# Altium integrated library Cypress PLD Delta39K.IntLib: 82 symbols (part 16 of 21)
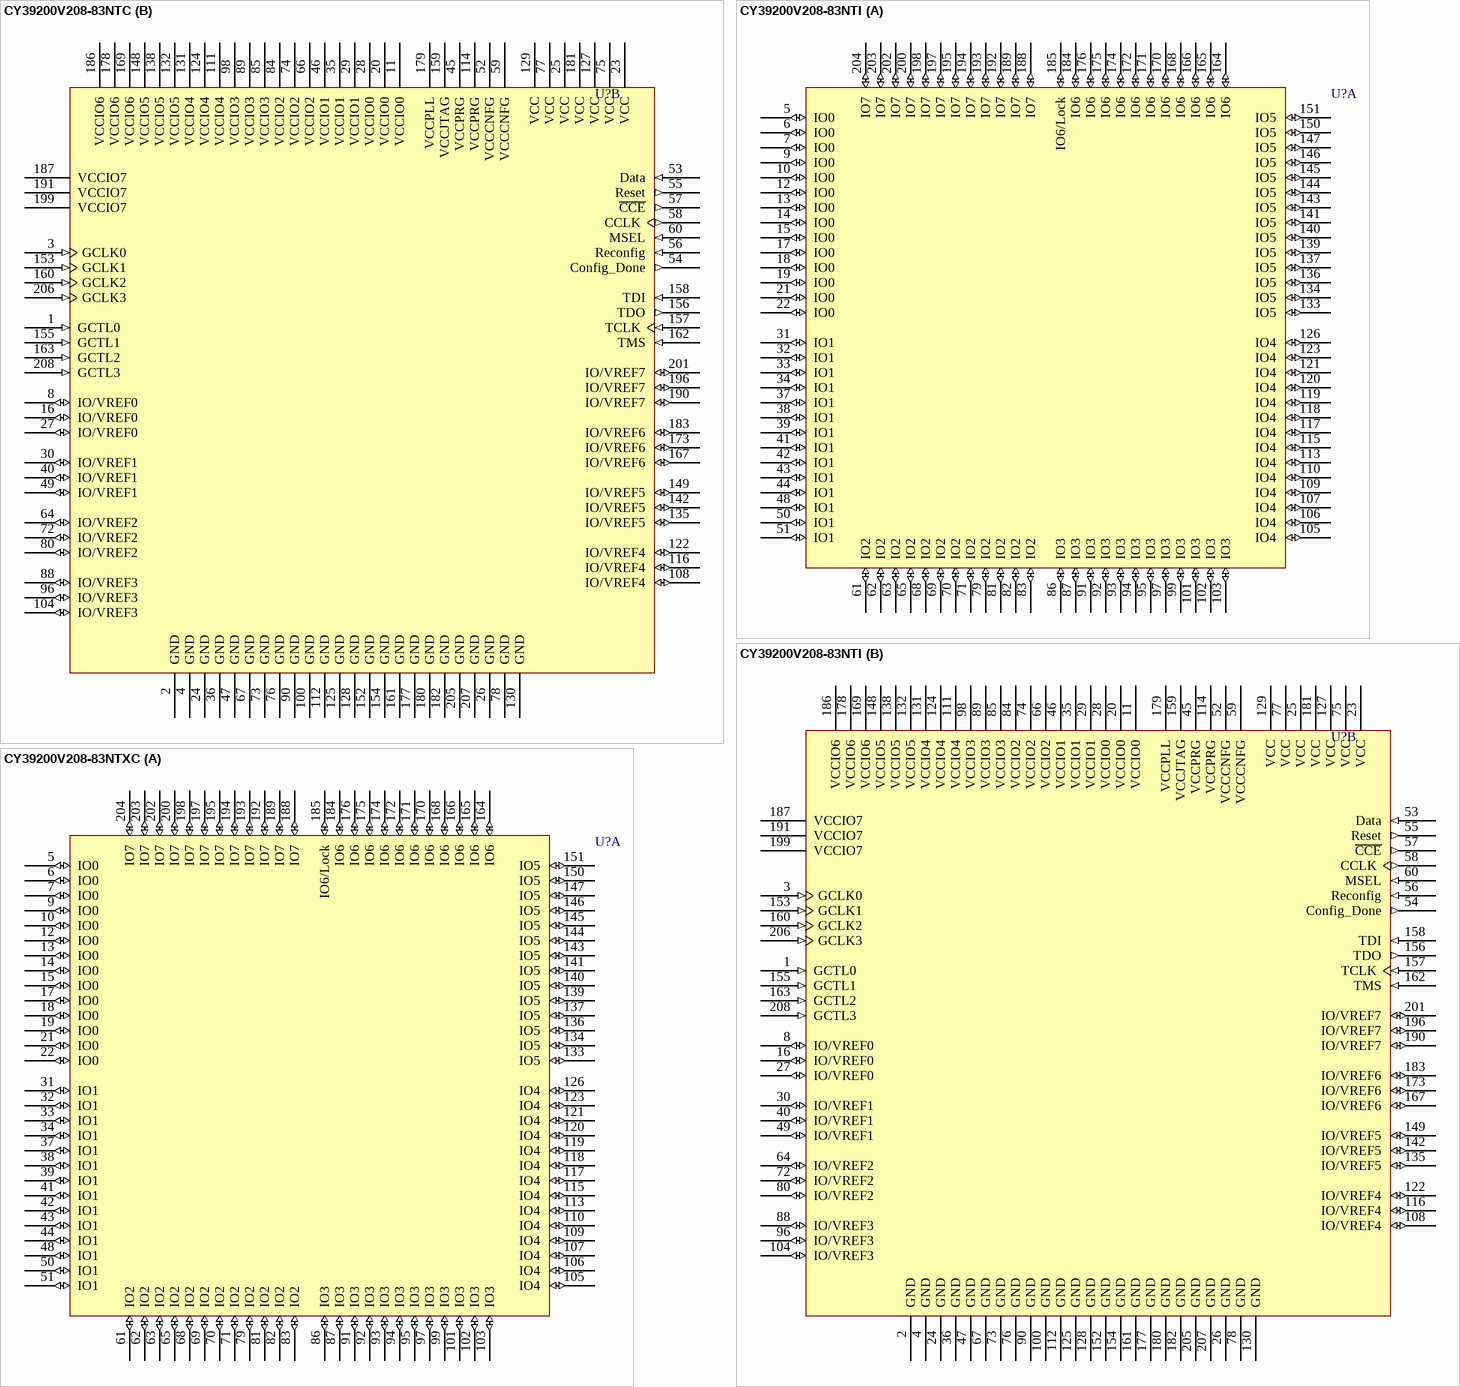
[diagram p93: symbols CY39200V208-83NTC to CY39200V208-83NTXC]

## CY39200V208-83NTI
designator U?
Delta39K ISR CPLD, 3.3V/2.5V, 200K Gates, 83 MHz, 208-Lead EQFP, Industrial Grade; Published: 11-Dec-2002; LatestRevisionDate: 13-Apr-2006; LatestRevisionNote: IPC-7351 Footprint Added.; DatasheetVersion: revI, Mar-2005; PackageVersion: Mar-2002; PackageReference: NT208; Publisher: Altium Limited; PackageDescription: 208-Pin Plastic Shrink Quad Flat Pack 0.5 mm Pitch; ComponentLink1Description: Manufacturer Link; ComponentLink1URL: http://www.cypress.com/; ComponentLink2Description: Datasheet; ComponentLink2URL: http://www.cypress.com/portal/server.pt/gateway/PTARGS_0_601270_1522_209_0_43/http%3B/sjapp20.mis.cypress.com%3B7001/publishedcontent/publish/design_resources/datasheets/contents/cy39030v_5.pdf
footprint NT208_N (Shrink QFP, 208-Leads, Body 28x28mm, Pitch 0.5mm, IPC Medium Density)
footprint NT208_L (Shrink QFP, 208-Leads, Body 28x28mm, Pitch 0.5mm, IPC High Density)
footprint NT208_M (Shrink QFP, 208-Leads, Body 28x28mm, Pitch 0.5mm, IPC Low Density)
3D model CY39200V208-NT208 (208-Pin Plastic Shrink Quad Flat Pack 0.5 mm Pitch)
part A pins: 5 IO0 (io) "IO for Bank 0", 6 IO0 (io) "IO for Bank 0", 7 IO0 (io) "IO for Bank 0", 9 IO0 (io) "IO for Bank 0", 10 IO0 (io) "IO for Bank 0", 12 IO0 (io) "IO for Bank 0", 13 IO0 (io) "IO for Bank 0", 14 IO0 (io) "IO for Bank 0", 15 IO0 (io) "IO for Bank 0", 17 IO0 (io) "IO for Bank 0", 18 IO0 (io) "IO for Bank 0", 19 IO0 (io) "IO for Bank 0", 21 IO0 (io) "IO for Bank 0", 22 IO0 (io) "IO for Bank 0", 31 IO1 (io) "IO for Bank 1", 32 IO1 (io) "IO for Bank 1", 33 IO1 (io) "IO for Bank 1", 34 IO1 (io) "IO for Bank 1", 37 IO1 (io) "IO for Bank 1", 38 IO1 (io) "IO for Bank 1", 39 IO1 (io) "IO for Bank 1", 41 IO1 (io) "IO for Bank 1", 42 IO1 (io) "IO for Bank 1", 43 IO1 (io) "IO for Bank 1", 44 IO1 (io) "IO for Bank 1", 48 IO1 (io) "IO for Bank 1", 50 IO1 (io) "IO for Bank 1", 51 IO1 (io) "IO for Bank 1", 61 IO2 (io) "IO for Bank 2", 62 IO2 (io) "IO for Bank 2", 63 IO2 (io) "IO for Bank 2", 65 IO2 (io) "IO for Bank 2", 68 IO2 (io) "IO for Bank 2", 69 IO2 (io) "IO for Bank 2", 70 IO2 (io) "IO for Bank 2", 71 IO2 (io) "IO for Bank 2", 79 IO2 (io) "IO for Bank 2", 81 IO2 (io) "IO for Bank 2", 82 IO2 (io) "IO for Bank 2", 83 IO2 (io) "IO for Bank 2", 86 IO3 (io) "IO for Bank 3", 87 IO3 (io) "IO for Bank 3", 91 IO3 (io) "IO for Bank 3", 92 IO3 (io) "IO for Bank 3", 93 IO3 (io) "IO for Bank 3", 94 IO3 (io) "IO for Bank 3", 95 IO3 (io) "IO for Bank 3", 97 IO3 (io) "IO for Bank 3", 99 IO3 (io) "IO for Bank 3", 101 IO3 (io) "IO for Bank 3", 102 IO3 (io) "IO for Bank 3", 103 IO3 (io) "IO for Bank 3", 105 IO4 (io) "IO for Bank 4", 106 IO4 (io) "IO for Bank 4", 107 IO4 (io) "IO for Bank 4", 109 IO4 (io) "IO for Bank 4", 110 IO4 (io) "IO for Bank 4", 113 IO4 (io) "IO for Bank 4", 115 IO4 (io) "IO for Bank 4", 117 IO4 (io) "IO for Bank 4", 118 IO4 (io) "IO for Bank 4", 119 IO4 (io) "IO for Bank 4", 120 IO4 (io) "IO for Bank 4", 121 IO4 (io) "IO for Bank 4", 123 IO4 (io) "IO for Bank 4", 126 IO4 (io) "IO for Bank 4", 133 IO5 (io) "IO for Bank 5", 134 IO5 (io) "IO for Bank 5", 136 IO5 (io) "IO for Bank 5", 137 IO5 (io) "IO for Bank 5", 139 IO5 (io) "IO for Bank 5", 140 IO5 (io) "IO for Bank 5", 141 IO5 (io) "IO for Bank 5", 143 IO5 (io) "IO for Bank 5", 144 IO5 (io) "IO for Bank 5", 145 IO5 (io) "IO for Bank 5", 146 IO5 (io) "IO for Bank 5", 147 IO5 (io) "IO for Bank 5", 150 IO5 (io) "IO for Bank 5", 151 IO5 (io) "IO for Bank 5", 164 IO6 (io) "IO for Bank 6", 165 IO6 (io) "IO for Bank 6", 166 IO6 (io) "IO for Bank 6", 168 IO6 (io) "IO for Bank 6", 170 IO6 (io) "IO for Bank 6", 171 IO6 (io) "IO for Bank 6", 172 IO6 (io) "IO for Bank 6", 174 IO6 (io) "IO for Bank 6", 175 IO6 (io) "IO for Bank 6", 176 IO6 (io) "IO for Bank 6", 184 IO6 (io) "IO for Bank 6", 185 IO6/Lock (io) "IO in Bank 6 or PLL lock output signal", 188 IO7 (io) "IO for Bank 7", 189 IO7 (io) "IO for Bank 7", 192 IO7 (io) "IO for Bank 7", 193 IO7 (io) "IO for Bank 7", 194 IO7 (io) "IO for Bank 7", 195 IO7 (io) "IO for Bank 7", 197 IO7 (io) "IO for Bank 7", 198 IO7 (io) "IO for Bank 7", 200 IO7 (io) "IO for Bank 7", 202 IO7 (io) "IO for Bank 7", 203 IO7 (io) "IO for Bank 7", 204 IO7 (io) "IO for Bank 7"
part B pins: 1 GCTL0 (in) "Global Control signal 0", 2 GND (power) "Ground", 3 GCLK0 (in) "Global Clock signal 0", 4 GND (power) "Ground", 8 IO/VREF0 (io) "IO or Reference Voltage for Bank 0", 11 VCCIO0 (power) "VCC for I/O bank 0", 16 IO/VREF0 (io) "IO or Reference Voltage for Bank 0", 20 VCCIO0 (power) "VCC for I/O bank 0", 23 VCC (power) "Operating Voltage", 24 GND (power) "Ground", 25 VCC (power) "Operating Voltage", 26 GND (power) "Ground", 27 IO/VREF0 (io) "IO or Reference Voltage for Bank 0", 28 VCCIO0 (power) "VCC for I/O bank 0", 29 VCCIO1 (power) "VCC for I/O bank 1", 30 IO/VREF1 (io) "IO or Reference Voltage for Bank 1", 35 VCCIO1 (power) "VCC for I/O bank 1", 36 GND (power) "Ground", 40 IO/VREF1 (io) "IO or Reference Voltage for Bank 1", 45 VCCPRG (power) "VCC for programming Self-Boot solution embedded boot PROM", 46 VCCIO1 (power) "VCC for I/O bank 1", 47 GND (power) "Ground", 49 IO/VREF1 (io) "IO or Reference Voltage for Bank 1", 52 VCCCNFG (power) "VCC for Configuration port", 53 Data (in) "Pin to receive configuration data from the external boot PROM", 54 Config_Done (out) "Flag indicating that configuration is complete", 55 Reset (out) "Reset signal to interface with the external boot PROM", 56 Reconfig (in) "Pin to start configuration of Delta39K", 57 ~{CCE} (out) "Chip select for the external boot PROM (active low)", 58 CCLK (out) "Configuration Clock for serial interface with the external boot PROM", 59 VCCCNFG (power) "VCC for Configuration port", 60 MSEL (in) "Mode Select Pin", 64 IO/VREF2 (io) "IO or Reference Voltage for Bank 2", 66 VCCIO2 (power) "VCC for I/O bank 2", 67 GND (power) "Ground", 72 IO/VREF2 (io) "IO or Reference Voltage for Bank 2", 73 GND (power) "Ground", 74 VCCIO2 (power) "VCC for I/O bank 2", 75 VCC (power) "Operating Voltage", 76 GND (power) "Ground", 77 VCC (power) "Operating Voltage", 78 GND (power) "Ground", 80 IO/VREF2 (io) "IO or Reference Voltage for Bank 2", 84 VCCIO2 (power) "VCC for I/O bank 2", 85 VCCIO3 (power) "VCC for I/O bank 3", 88 IO/VREF3 (io) "IO or Reference Voltage for Bank 3", 89 VCCIO3 (power) "VCC for I/O bank 3", 90 GND (power) "Ground", 96 IO/VREF3 (io) "IO or Reference Voltage for Bank 3", 98 VCCIO3 (power) "VCC for I/O bank 3", 100 GND (power) "Ground", 104 IO/VREF3 (io) "IO or Reference Voltage for Bank 3", 108 IO/VREF4 (io) "IO or Reference Voltage for Bank 4", 111 VCCIO4 (power) "VCC for I/O bank 4", 112 GND (power) "Ground", 114 VCCPRG (power) "VCC for programming Self-Boot solution embedded boot PROM", 116 IO/VREF4 (io) "IO or Reference Voltage for Bank 4", 122 IO/VREF4 (io) "IO or Reference Voltage for Bank 4", 124 VCCIO4 (power) "VCC for I/O bank 4", 125 GND (power) "Ground", 127 VCC (power) "Operating Voltage", 128 GND (power) "Ground", 129 VCC (power) "Operating Voltage", 130 GND (power) "Ground", 131 VCCIO4 (power) "VCC for I/O bank 4", 132 VCCIO5 (power) "VCC for I/O bank 5", 135 IO/VREF5 (io) "IO or Reference Voltage for Bank 5", 138 VCCIO5 (power) "VCC for I/O bank 5", 142 IO/VREF5 (io) "IO or Reference Voltage for Bank 5", 148 VCCIO5 (power) "VCC for I/O bank 5", 149 IO/VREF5 (io) "IO or Reference Voltage for Bank 5", 152 GND (power) "Ground", 153 GCLK1 (in) "Global Clock signal 1", 154 GND (power) "Ground", 155 GCTL1 (in) "Global Control signal 1", 156 TDO (out) "JTAG Test Data Out", 157 TCLK (in) "JTAG Test Clock", 158 TDI (in) "JTAG Test Data In", 159 VCCJTAG (power) "VCC for JTAG pins", 160 GCLK2 (in) "Global Clock signal 2", 161 GND (power) "Ground", 162 TMS (in) "JTAG Test Mode Select", 163 GCTL2 (in) "Global Control signal 2", 167 IO/VREF6 (io) "IO or Reference Voltage for Bank 6", 169 VCCIO6 (power) "VCC for I/O bank 6", 173 IO/VREF6 (io) "IO or Reference Voltage for Bank 6", 177 GND (power) "Ground", 178 VCCIO6 (power) "VCC for I/O bank 6", 179 VCCPLL (power) "VCC for PLL", 180 GND (power) "Ground", 181 VCC (power) "Operating Voltage", 182 GND (power) "Ground", 183 IO/VREF6 (io) "IO or Reference Voltage for Bank 6", 186 VCCIO6 (power) "VCC for I/O bank 6", 187 VCCIO7 (power) "VCC for I/O bank 7", 190 IO/VREF7 (io) "IO or Reference Voltage for Bank 7", 191 VCCIO7 (power) "VCC for I/O bank 7", 196 IO/VREF7 (io) "IO or Reference Voltage for Bank 7", 199 VCCIO7 (power) "VCC for I/O bank 7", 201 IO/VREF7 (io) "IO or Reference Voltage for Bank 7", 205 GND (power) "Ground", 206 GCLK3 (in) "Global Clock signal 3", 207 GND (power) "Ground", 208 GCTL3 (in) "Global Control signal 3"

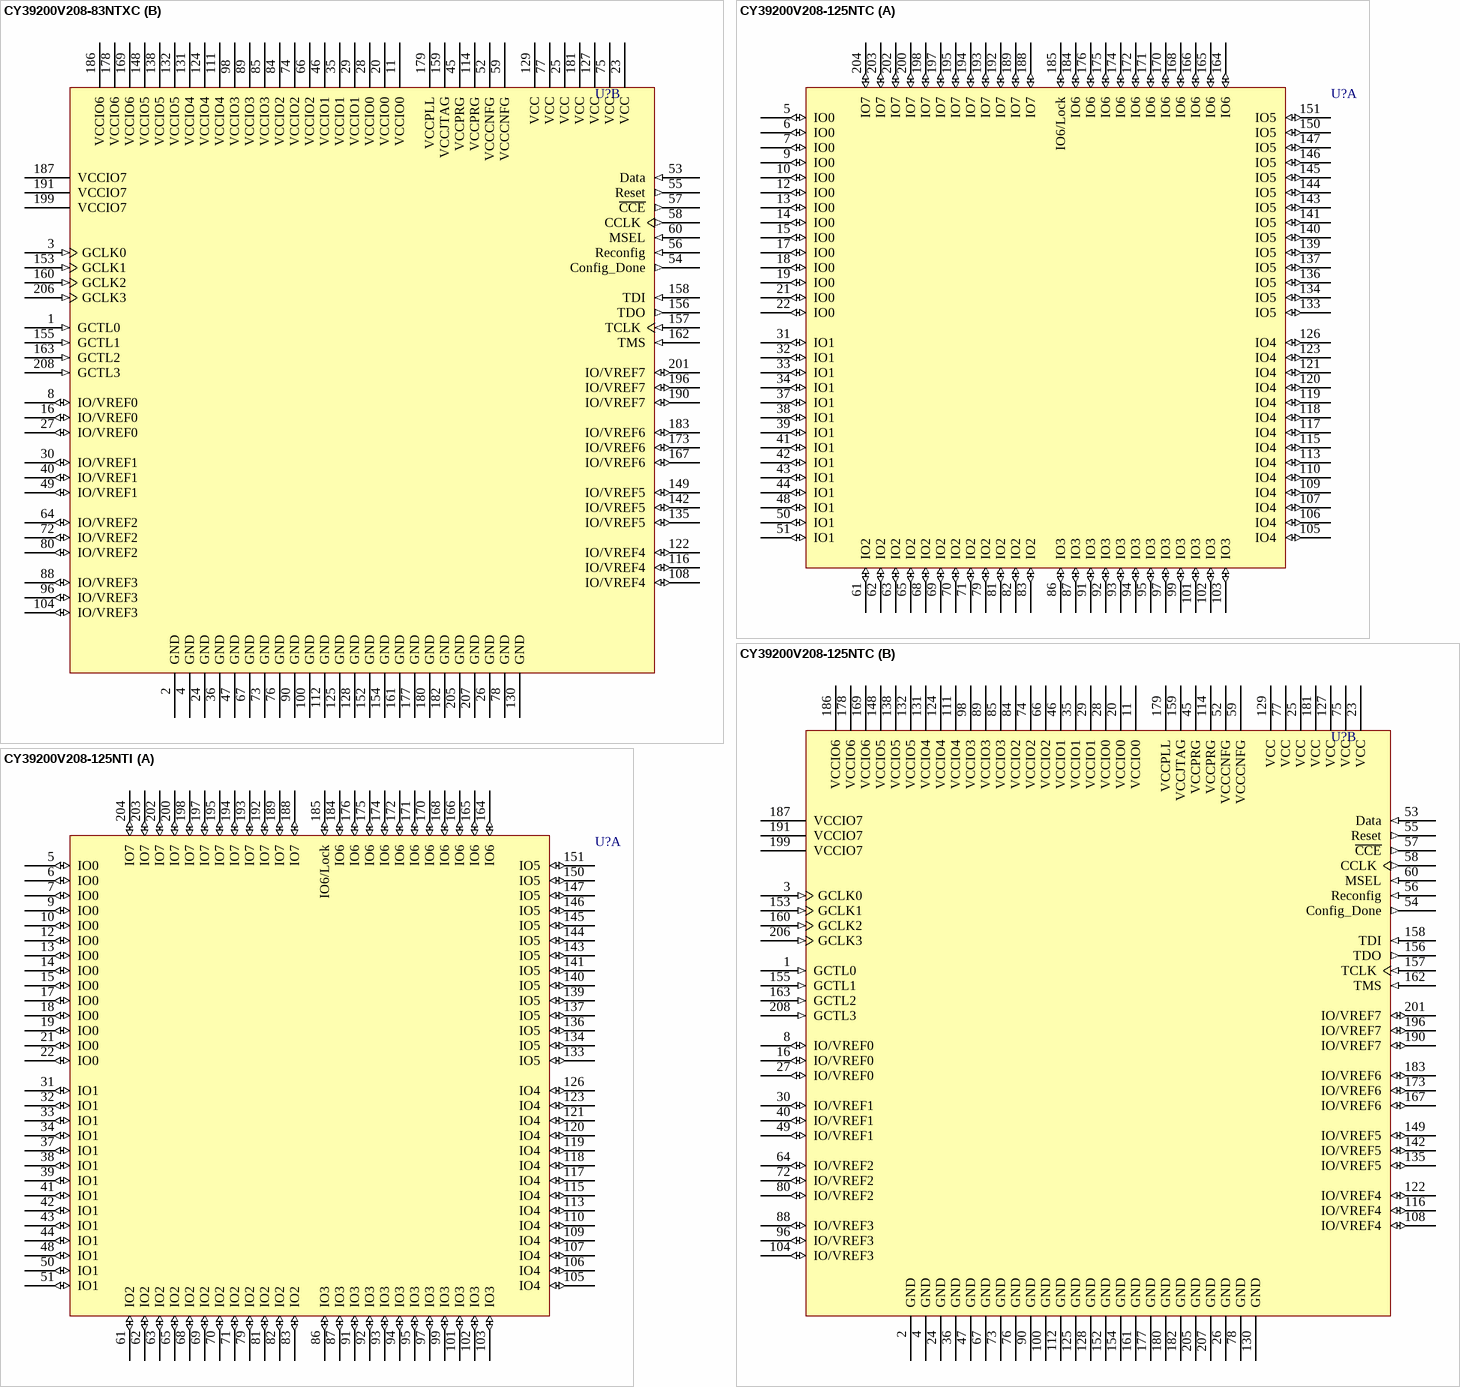
[diagram p54: symbols CY39200V208-83NTXC to CY39200V208-125NTI]

## CY39200V208-83NTXC
designator U?
Delta39K ISR CPLD, 3.3V/2.5V, 200K Gates, 83 MHz, 208-Lead EQFP, Commercial Grade, Pb-Free; Published: 6-Oct-2005; LatestRevisionDate: 13-Apr-2006; LatestRevisionNote: IPC-7351 Footprint Added.; DatasheetVersion: revI, Mar-2005; PackageVersion: Mar-2002; PackageReference: NT208; Publisher: Altium Limited; PackageDescription: 208-Pin Plastic Shrink Quad Flat Pack 0.5 mm Pitch; ComponentLink1Description: Manufacturer Link; ComponentLink1URL: http://www.cypress.com/; ComponentLink2Description: Datasheet; ComponentLink2URL: http://www.cypress.com/portal/server.pt/gateway/PTARGS_0_601270_1522_209_0_43/http%3B/sjapp20.mis.cypress.com%3B7001/publishedcontent/publish/design_resources/datasheets/contents/cy39030v_5.pdf
footprint NT208_N (Shrink QFP, 208-Leads, Body 28x28mm, Pitch 0.5mm, IPC Medium Density)
footprint NT208_L (Shrink QFP, 208-Leads, Body 28x28mm, Pitch 0.5mm, IPC High Density)
footprint NT208_M (Shrink QFP, 208-Leads, Body 28x28mm, Pitch 0.5mm, IPC Low Density)
3D model CY39200V208-NT208 (208-Pin Plastic Shrink Quad Flat Pack 0.5 mm Pitch)
part A pins: 5 IO0 (io) "IO for Bank 0", 6 IO0 (io) "IO for Bank 0", 7 IO0 (io) "IO for Bank 0", 9 IO0 (io) "IO for Bank 0", 10 IO0 (io) "IO for Bank 0", 12 IO0 (io) "IO for Bank 0", 13 IO0 (io) "IO for Bank 0", 14 IO0 (io) "IO for Bank 0", 15 IO0 (io) "IO for Bank 0", 17 IO0 (io) "IO for Bank 0", 18 IO0 (io) "IO for Bank 0", 19 IO0 (io) "IO for Bank 0", 21 IO0 (io) "IO for Bank 0", 22 IO0 (io) "IO for Bank 0", 31 IO1 (io) "IO for Bank 1", 32 IO1 (io) "IO for Bank 1", 33 IO1 (io) "IO for Bank 1", 34 IO1 (io) "IO for Bank 1", 37 IO1 (io) "IO for Bank 1", 38 IO1 (io) "IO for Bank 1", 39 IO1 (io) "IO for Bank 1", 41 IO1 (io) "IO for Bank 1", 42 IO1 (io) "IO for Bank 1", 43 IO1 (io) "IO for Bank 1", 44 IO1 (io) "IO for Bank 1", 48 IO1 (io) "IO for Bank 1", 50 IO1 (io) "IO for Bank 1", 51 IO1 (io) "IO for Bank 1", 61 IO2 (io) "IO for Bank 2", 62 IO2 (io) "IO for Bank 2", 63 IO2 (io) "IO for Bank 2", 65 IO2 (io) "IO for Bank 2", 68 IO2 (io) "IO for Bank 2", 69 IO2 (io) "IO for Bank 2", 70 IO2 (io) "IO for Bank 2", 71 IO2 (io) "IO for Bank 2", 79 IO2 (io) "IO for Bank 2", 81 IO2 (io) "IO for Bank 2", 82 IO2 (io) "IO for Bank 2", 83 IO2 (io) "IO for Bank 2", 86 IO3 (io) "IO for Bank 3", 87 IO3 (io) "IO for Bank 3", 91 IO3 (io) "IO for Bank 3", 92 IO3 (io) "IO for Bank 3", 93 IO3 (io) "IO for Bank 3", 94 IO3 (io) "IO for Bank 3", 95 IO3 (io) "IO for Bank 3", 97 IO3 (io) "IO for Bank 3", 99 IO3 (io) "IO for Bank 3", 101 IO3 (io) "IO for Bank 3", 102 IO3 (io) "IO for Bank 3", 103 IO3 (io) "IO for Bank 3", 105 IO4 (io) "IO for Bank 4", 106 IO4 (io) "IO for Bank 4", 107 IO4 (io) "IO for Bank 4", 109 IO4 (io) "IO for Bank 4", 110 IO4 (io) "IO for Bank 4", 113 IO4 (io) "IO for Bank 4", 115 IO4 (io) "IO for Bank 4", 117 IO4 (io) "IO for Bank 4", 118 IO4 (io) "IO for Bank 4", 119 IO4 (io) "IO for Bank 4", 120 IO4 (io) "IO for Bank 4", 121 IO4 (io) "IO for Bank 4", 123 IO4 (io) "IO for Bank 4", 126 IO4 (io) "IO for Bank 4", 133 IO5 (io) "IO for Bank 5", 134 IO5 (io) "IO for Bank 5", 136 IO5 (io) "IO for Bank 5", 137 IO5 (io) "IO for Bank 5", 139 IO5 (io) "IO for Bank 5", 140 IO5 (io) "IO for Bank 5", 141 IO5 (io) "IO for Bank 5", 143 IO5 (io) "IO for Bank 5", 144 IO5 (io) "IO for Bank 5", 145 IO5 (io) "IO for Bank 5", 146 IO5 (io) "IO for Bank 5", 147 IO5 (io) "IO for Bank 5", 150 IO5 (io) "IO for Bank 5", 151 IO5 (io) "IO for Bank 5", 164 IO6 (io) "IO for Bank 6", 165 IO6 (io) "IO for Bank 6", 166 IO6 (io) "IO for Bank 6", 168 IO6 (io) "IO for Bank 6", 170 IO6 (io) "IO for Bank 6", 171 IO6 (io) "IO for Bank 6", 172 IO6 (io) "IO for Bank 6", 174 IO6 (io) "IO for Bank 6", 175 IO6 (io) "IO for Bank 6", 176 IO6 (io) "IO for Bank 6", 184 IO6 (io) "IO for Bank 6", 185 IO6/Lock (io) "IO in Bank 6 or PLL lock output signal", 188 IO7 (io) "IO for Bank 7", 189 IO7 (io) "IO for Bank 7", 192 IO7 (io) "IO for Bank 7", 193 IO7 (io) "IO for Bank 7", 194 IO7 (io) "IO for Bank 7", 195 IO7 (io) "IO for Bank 7", 197 IO7 (io) "IO for Bank 7", 198 IO7 (io) "IO for Bank 7", 200 IO7 (io) "IO for Bank 7", 202 IO7 (io) "IO for Bank 7", 203 IO7 (io) "IO for Bank 7", 204 IO7 (io) "IO for Bank 7"
part B pins: 1 GCTL0 (in) "Global Control signal 0", 2 GND (power) "Ground", 3 GCLK0 (in) "Global Clock signal 0", 4 GND (power) "Ground", 8 IO/VREF0 (io) "IO or Reference Voltage for Bank 0", 11 VCCIO0 (power) "VCC for I/O bank 0", 16 IO/VREF0 (io) "IO or Reference Voltage for Bank 0", 20 VCCIO0 (power) "VCC for I/O bank 0", 23 VCC (power) "Operating Voltage", 24 GND (power) "Ground", 25 VCC (power) "Operating Voltage", 26 GND (power) "Ground", 27 IO/VREF0 (io) "IO or Reference Voltage for Bank 0", 28 VCCIO0 (power) "VCC for I/O bank 0", 29 VCCIO1 (power) "VCC for I/O bank 1", 30 IO/VREF1 (io) "IO or Reference Voltage for Bank 1", 35 VCCIO1 (power) "VCC for I/O bank 1", 36 GND (power) "Ground", 40 IO/VREF1 (io) "IO or Reference Voltage for Bank 1", 45 VCCPRG (power) "VCC for programming Self-Boot solution embedded boot PROM", 46 VCCIO1 (power) "VCC for I/O bank 1", 47 GND (power) "Ground", 49 IO/VREF1 (io) "IO or Reference Voltage for Bank 1", 52 VCCCNFG (power) "VCC for Configuration port", 53 Data (in) "Pin to receive configuration data from the external boot PROM", 54 Config_Done (out) "Flag indicating that configuration is complete", 55 Reset (out) "Reset signal to interface with the external boot PROM", 56 Reconfig (in) "Pin to start configuration of Delta39K", 57 ~{CCE} (out) "Chip select for the external boot PROM (active low)", 58 CCLK (out) "Configuration Clock for serial interface with the external boot PROM", 59 VCCCNFG (power) "VCC for Configuration port", 60 MSEL (in) "Mode Select Pin", 64 IO/VREF2 (io) "IO or Reference Voltage for Bank 2", 66 VCCIO2 (power) "VCC for I/O bank 2", 67 GND (power) "Ground", 72 IO/VREF2 (io) "IO or Reference Voltage for Bank 2", 73 GND (power) "Ground", 74 VCCIO2 (power) "VCC for I/O bank 2", 75 VCC (power) "Operating Voltage", 76 GND (power) "Ground", 77 VCC (power) "Operating Voltage", 78 GND (power) "Ground", 80 IO/VREF2 (io) "IO or Reference Voltage for Bank 2", 84 VCCIO2 (power) "VCC for I/O bank 2", 85 VCCIO3 (power) "VCC for I/O bank 3", 88 IO/VREF3 (io) "IO or Reference Voltage for Bank 3", 89 VCCIO3 (power) "VCC for I/O bank 3", 90 GND (power) "Ground", 96 IO/VREF3 (io) "IO or Reference Voltage for Bank 3", 98 VCCIO3 (power) "VCC for I/O bank 3", 100 GND (power) "Ground", 104 IO/VREF3 (io) "IO or Reference Voltage for Bank 3", 108 IO/VREF4 (io) "IO or Reference Voltage for Bank 4", 111 VCCIO4 (power) "VCC for I/O bank 4", 112 GND (power) "Ground", 114 VCCPRG (power) "VCC for programming Self-Boot solution embedded boot PROM", 116 IO/VREF4 (io) "IO or Reference Voltage for Bank 4", 122 IO/VREF4 (io) "IO or Reference Voltage for Bank 4", 124 VCCIO4 (power) "VCC for I/O bank 4", 125 GND (power) "Ground", 127 VCC (power) "Operating Voltage", 128 GND (power) "Ground", 129 VCC (power) "Operating Voltage", 130 GND (power) "Ground", 131 VCCIO4 (power) "VCC for I/O bank 4", 132 VCCIO5 (power) "VCC for I/O bank 5", 135 IO/VREF5 (io) "IO or Reference Voltage for Bank 5", 138 VCCIO5 (power) "VCC for I/O bank 5", 142 IO/VREF5 (io) "IO or Reference Voltage for Bank 5", 148 VCCIO5 (power) "VCC for I/O bank 5", 149 IO/VREF5 (io) "IO or Reference Voltage for Bank 5", 152 GND (power) "Ground", 153 GCLK1 (in) "Global Clock signal 1", 154 GND (power) "Ground", 155 GCTL1 (in) "Global Control signal 1", 156 TDO (out) "JTAG Test Data Out", 157 TCLK (in) "JTAG Test Clock", 158 TDI (in) "JTAG Test Data In", 159 VCCJTAG (power) "VCC for JTAG pins", 160 GCLK2 (in) "Global Clock signal 2", 161 GND (power) "Ground", 162 TMS (in) "JTAG Test Mode Select", 163 GCTL2 (in) "Global Control signal 2", 167 IO/VREF6 (io) "IO or Reference Voltage for Bank 6", 169 VCCIO6 (power) "VCC for I/O bank 6", 173 IO/VREF6 (io) "IO or Reference Voltage for Bank 6", 177 GND (power) "Ground", 178 VCCIO6 (power) "VCC for I/O bank 6", 179 VCCPLL (power) "VCC for PLL", 180 GND (power) "Ground", 181 VCC (power) "Operating Voltage", 182 GND (power) "Ground", 183 IO/VREF6 (io) "IO or Reference Voltage for Bank 6", 186 VCCIO6 (power) "VCC for I/O bank 6", 187 VCCIO7 (power) "VCC for I/O bank 7", 190 IO/VREF7 (io) "IO or Reference Voltage for Bank 7", 191 VCCIO7 (power) "VCC for I/O bank 7", 196 IO/VREF7 (io) "IO or Reference Voltage for Bank 7", 199 VCCIO7 (power) "VCC for I/O bank 7", 201 IO/VREF7 (io) "IO or Reference Voltage for Bank 7", 205 GND (power) "Ground", 206 GCLK3 (in) "Global Clock signal 3", 207 GND (power) "Ground", 208 GCTL3 (in) "Global Control signal 3"

## CY39200V208-125NTC
designator U?
Delta39K ISR CPLD, 3.3V/2.5V, 200K Gates, 125 MHz, 208-Lead EQFP, Commercial Grade; Published: 11-Dec-2002; LatestRevisionDate: 13-Apr-2006; LatestRevisionNote: IPC-7351 Footprint Added.; DatasheetVersion: revI, Mar-2005; PackageVersion: Mar-2002; PackageReference: NT208; Publisher: Altium Limited; PackageDescription: 208-Pin Plastic Shrink Quad Flat Pack 0.5 mm Pitch; ComponentLink1Description: Manufacturer Link; ComponentLink1URL: http://www.cypress.com/; ComponentLink2Description: Datasheet; ComponentLink2URL: http://www.cypress.com/portal/server.pt/gateway/PTARGS_0_601270_1522_209_0_43/http%3B/sjapp20.mis.cypress.com%3B7001/publishedcontent/publish/design_resources/datasheets/contents/cy39030v_5.pdf
footprint NT208_N (Shrink QFP, 208-Leads, Body 28x28mm, Pitch 0.5mm, IPC Medium Density)
footprint NT208_L (Shrink QFP, 208-Leads, Body 28x28mm, Pitch 0.5mm, IPC High Density)
footprint NT208_M (Shrink QFP, 208-Leads, Body 28x28mm, Pitch 0.5mm, IPC Low Density)
3D model CY39200V208-NT208 (208-Pin Plastic Shrink Quad Flat Pack 0.5 mm Pitch)
part A pins: 5 IO0 (io) "IO for Bank 0", 6 IO0 (io) "IO for Bank 0", 7 IO0 (io) "IO for Bank 0", 9 IO0 (io) "IO for Bank 0", 10 IO0 (io) "IO for Bank 0", 12 IO0 (io) "IO for Bank 0", 13 IO0 (io) "IO for Bank 0", 14 IO0 (io) "IO for Bank 0", 15 IO0 (io) "IO for Bank 0", 17 IO0 (io) "IO for Bank 0", 18 IO0 (io) "IO for Bank 0", 19 IO0 (io) "IO for Bank 0", 21 IO0 (io) "IO for Bank 0", 22 IO0 (io) "IO for Bank 0", 31 IO1 (io) "IO for Bank 1", 32 IO1 (io) "IO for Bank 1", 33 IO1 (io) "IO for Bank 1", 34 IO1 (io) "IO for Bank 1", 37 IO1 (io) "IO for Bank 1", 38 IO1 (io) "IO for Bank 1", 39 IO1 (io) "IO for Bank 1", 41 IO1 (io) "IO for Bank 1", 42 IO1 (io) "IO for Bank 1", 43 IO1 (io) "IO for Bank 1", 44 IO1 (io) "IO for Bank 1", 48 IO1 (io) "IO for Bank 1", 50 IO1 (io) "IO for Bank 1", 51 IO1 (io) "IO for Bank 1", 61 IO2 (io) "IO for Bank 2", 62 IO2 (io) "IO for Bank 2", 63 IO2 (io) "IO for Bank 2", 65 IO2 (io) "IO for Bank 2", 68 IO2 (io) "IO for Bank 2", 69 IO2 (io) "IO for Bank 2", 70 IO2 (io) "IO for Bank 2", 71 IO2 (io) "IO for Bank 2", 79 IO2 (io) "IO for Bank 2", 81 IO2 (io) "IO for Bank 2", 82 IO2 (io) "IO for Bank 2", 83 IO2 (io) "IO for Bank 2", 86 IO3 (io) "IO for Bank 3", 87 IO3 (io) "IO for Bank 3", 91 IO3 (io) "IO for Bank 3", 92 IO3 (io) "IO for Bank 3", 93 IO3 (io) "IO for Bank 3", 94 IO3 (io) "IO for Bank 3", 95 IO3 (io) "IO for Bank 3", 97 IO3 (io) "IO for Bank 3", 99 IO3 (io) "IO for Bank 3", 101 IO3 (io) "IO for Bank 3", 102 IO3 (io) "IO for Bank 3", 103 IO3 (io) "IO for Bank 3", 105 IO4 (io) "IO for Bank 4", 106 IO4 (io) "IO for Bank 4", 107 IO4 (io) "IO for Bank 4", 109 IO4 (io) "IO for Bank 4", 110 IO4 (io) "IO for Bank 4", 113 IO4 (io) "IO for Bank 4", 115 IO4 (io) "IO for Bank 4", 117 IO4 (io) "IO for Bank 4", 118 IO4 (io) "IO for Bank 4", 119 IO4 (io) "IO for Bank 4", 120 IO4 (io) "IO for Bank 4", 121 IO4 (io) "IO for Bank 4", 123 IO4 (io) "IO for Bank 4", 126 IO4 (io) "IO for Bank 4", 133 IO5 (io) "IO for Bank 5", 134 IO5 (io) "IO for Bank 5", 136 IO5 (io) "IO for Bank 5", 137 IO5 (io) "IO for Bank 5", 139 IO5 (io) "IO for Bank 5", 140 IO5 (io) "IO for Bank 5", 141 IO5 (io) "IO for Bank 5", 143 IO5 (io) "IO for Bank 5", 144 IO5 (io) "IO for Bank 5", 145 IO5 (io) "IO for Bank 5", 146 IO5 (io) "IO for Bank 5", 147 IO5 (io) "IO for Bank 5", 150 IO5 (io) "IO for Bank 5", 151 IO5 (io) "IO for Bank 5", 164 IO6 (io) "IO for Bank 6", 165 IO6 (io) "IO for Bank 6", 166 IO6 (io) "IO for Bank 6", 168 IO6 (io) "IO for Bank 6", 170 IO6 (io) "IO for Bank 6", 171 IO6 (io) "IO for Bank 6", 172 IO6 (io) "IO for Bank 6", 174 IO6 (io) "IO for Bank 6", 175 IO6 (io) "IO for Bank 6", 176 IO6 (io) "IO for Bank 6", 184 IO6 (io) "IO for Bank 6", 185 IO6/Lock (io) "IO in Bank 6 or PLL lock output signal", 188 IO7 (io) "IO for Bank 7", 189 IO7 (io) "IO for Bank 7", 192 IO7 (io) "IO for Bank 7", 193 IO7 (io) "IO for Bank 7", 194 IO7 (io) "IO for Bank 7", 195 IO7 (io) "IO for Bank 7", 197 IO7 (io) "IO for Bank 7", 198 IO7 (io) "IO for Bank 7", 200 IO7 (io) "IO for Bank 7", 202 IO7 (io) "IO for Bank 7", 203 IO7 (io) "IO for Bank 7", 204 IO7 (io) "IO for Bank 7"
part B pins: 1 GCTL0 (in) "Global Control signal 0", 2 GND (power) "Ground", 3 GCLK0 (in) "Global Clock signal 0", 4 GND (power) "Ground", 8 IO/VREF0 (io) "IO or Reference Voltage for Bank 0", 11 VCCIO0 (power) "VCC for I/O bank 0", 16 IO/VREF0 (io) "IO or Reference Voltage for Bank 0", 20 VCCIO0 (power) "VCC for I/O bank 0", 23 VCC (power) "Operating Voltage", 24 GND (power) "Ground", 25 VCC (power) "Operating Voltage", 26 GND (power) "Ground", 27 IO/VREF0 (io) "IO or Reference Voltage for Bank 0", 28 VCCIO0 (power) "VCC for I/O bank 0", 29 VCCIO1 (power) "VCC for I/O bank 1", 30 IO/VREF1 (io) "IO or Reference Voltage for Bank 1", 35 VCCIO1 (power) "VCC for I/O bank 1", 36 GND (power) "Ground", 40 IO/VREF1 (io) "IO or Reference Voltage for Bank 1", 45 VCCPRG (power) "VCC for programming Self-Boot solution embedded boot PROM", 46 VCCIO1 (power) "VCC for I/O bank 1", 47 GND (power) "Ground", 49 IO/VREF1 (io) "IO or Reference Voltage for Bank 1", 52 VCCCNFG (power) "VCC for Configuration port", 53 Data (in) "Pin to receive configuration data from the external boot PROM", 54 Config_Done (out) "Flag indicating that configuration is complete", 55 Reset (out) "Reset signal to interface with the external boot PROM", 56 Reconfig (in) "Pin to start configuration of Delta39K", 57 ~{CCE} (out) "Chip select for the external boot PROM (active low)", 58 CCLK (out) "Configuration Clock for serial interface with the external boot PROM", 59 VCCCNFG (power) "VCC for Configuration port", 60 MSEL (in) "Mode Select Pin", 64 IO/VREF2 (io) "IO or Reference Voltage for Bank 2", 66 VCCIO2 (power) "VCC for I/O bank 2", 67 GND (power) "Ground", 72 IO/VREF2 (io) "IO or Reference Voltage for Bank 2", 73 GND (power) "Ground", 74 VCCIO2 (power) "VCC for I/O bank 2", 75 VCC (power) "Operating Voltage", 76 GND (power) "Ground", 77 VCC (power) "Operating Voltage", 78 GND (power) "Ground", 80 IO/VREF2 (io) "IO or Reference Voltage for Bank 2", 84 VCCIO2 (power) "VCC for I/O bank 2", 85 VCCIO3 (power) "VCC for I/O bank 3", 88 IO/VREF3 (io) "IO or Reference Voltage for Bank 3", 89 VCCIO3 (power) "VCC for I/O bank 3", 90 GND (power) "Ground", 96 IO/VREF3 (io) "IO or Reference Voltage for Bank 3", 98 VCCIO3 (power) "VCC for I/O bank 3", 100 GND (power) "Ground", 104 IO/VREF3 (io) "IO or Reference Voltage for Bank 3", 108 IO/VREF4 (io) "IO or Reference Voltage for Bank 4", 111 VCCIO4 (power) "VCC for I/O bank 4", 112 GND (power) "Ground", 114 VCCPRG (power) "VCC for programming Self-Boot solution embedded boot PROM", 116 IO/VREF4 (io) "IO or Reference Voltage for Bank 4", 122 IO/VREF4 (io) "IO or Reference Voltage for Bank 4", 124 VCCIO4 (power) "VCC for I/O bank 4", 125 GND (power) "Ground", 127 VCC (power) "Operating Voltage", 128 GND (power) "Ground", 129 VCC (power) "Operating Voltage", 130 GND (power) "Ground", 131 VCCIO4 (power) "VCC for I/O bank 4", 132 VCCIO5 (power) "VCC for I/O bank 5", 135 IO/VREF5 (io) "IO or Reference Voltage for Bank 5", 138 VCCIO5 (power) "VCC for I/O bank 5", 142 IO/VREF5 (io) "IO or Reference Voltage for Bank 5", 148 VCCIO5 (power) "VCC for I/O bank 5", 149 IO/VREF5 (io) "IO or Reference Voltage for Bank 5", 152 GND (power) "Ground", 153 GCLK1 (in) "Global Clock signal 1", 154 GND (power) "Ground", 155 GCTL1 (in) "Global Control signal 1", 156 TDO (out) "JTAG Test Data Out", 157 TCLK (in) "JTAG Test Clock", 158 TDI (in) "JTAG Test Data In", 159 VCCJTAG (power) "VCC for JTAG pins", 160 GCLK2 (in) "Global Clock signal 2", 161 GND (power) "Ground", 162 TMS (in) "JTAG Test Mode Select", 163 GCTL2 (in) "Global Control signal 2", 167 IO/VREF6 (io) "IO or Reference Voltage for Bank 6", 169 VCCIO6 (power) "VCC for I/O bank 6", 173 IO/VREF6 (io) "IO or Reference Voltage for Bank 6", 177 GND (power) "Ground", 178 VCCIO6 (power) "VCC for I/O bank 6", 179 VCCPLL (power) "VCC for PLL", 180 GND (power) "Ground", 181 VCC (power) "Operating Voltage", 182 GND (power) "Ground", 183 IO/VREF6 (io) "IO or Reference Voltage for Bank 6", 186 VCCIO6 (power) "VCC for I/O bank 6", 187 VCCIO7 (power) "VCC for I/O bank 7", 190 IO/VREF7 (io) "IO or Reference Voltage for Bank 7", 191 VCCIO7 (power) "VCC for I/O bank 7", 196 IO/VREF7 (io) "IO or Reference Voltage for Bank 7", 199 VCCIO7 (power) "VCC for I/O bank 7", 201 IO/VREF7 (io) "IO or Reference Voltage for Bank 7", 205 GND (power) "Ground", 206 GCLK3 (in) "Global Clock signal 3", 207 GND (power) "Ground", 208 GCTL3 (in) "Global Control signal 3"

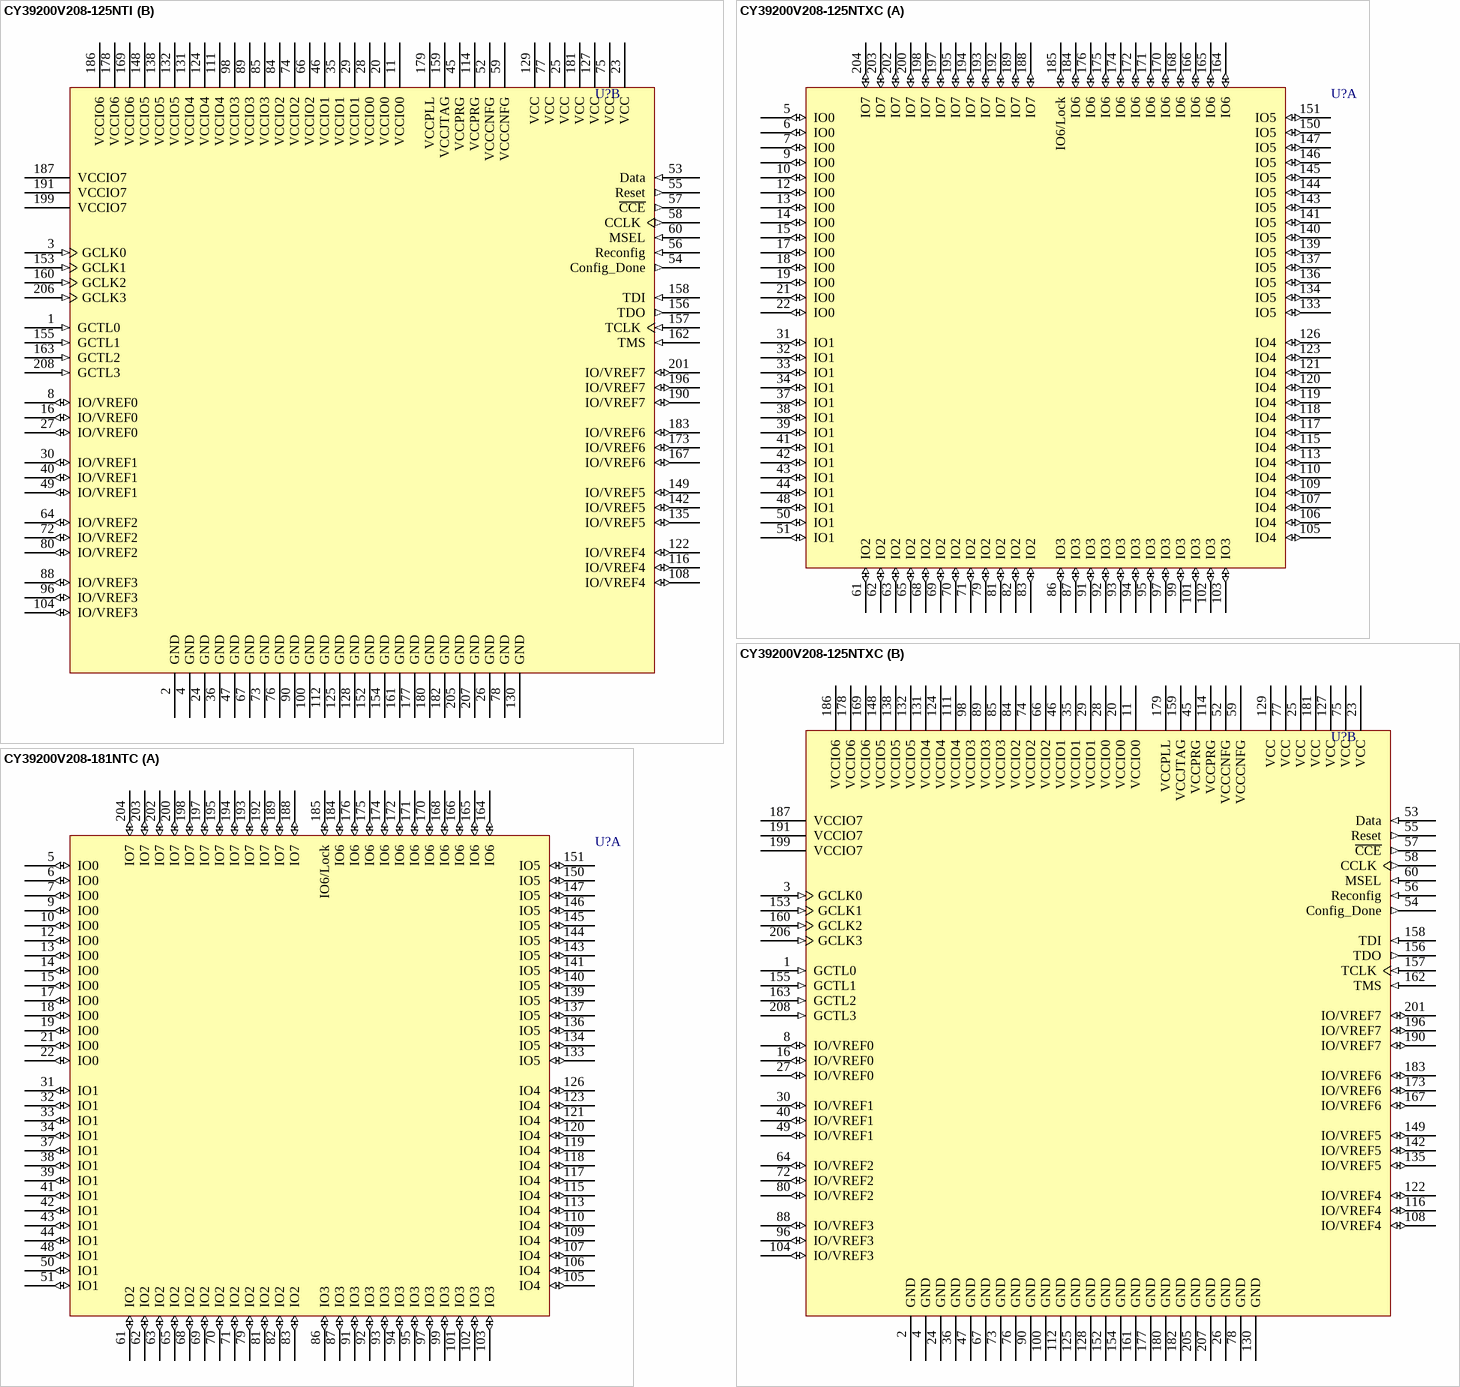
[diagram p55: symbols CY39200V208-125NTI to CY39200V208-181NTC]

## CY39200V208-125NTI
designator U?
Delta39K ISR CPLD, 3.3V/2.5V, 200K Gates, 125 MHz, 208-Lead EQFP, Industrial Grade; Published: 11-Dec-2002; LatestRevisionDate: 13-Apr-2006; LatestRevisionNote: IPC-7351 Footprint Added.; DatasheetVersion: revI, Mar-2005; PackageVersion: Mar-2002; PackageReference: NT208; Publisher: Altium Limited; PackageDescription: 208-Pin Plastic Shrink Quad Flat Pack 0.5 mm Pitch; ComponentLink1Description: Manufacturer Link; ComponentLink1URL: http://www.cypress.com/; ComponentLink2Description: Datasheet; ComponentLink2URL: http://www.cypress.com/portal/server.pt/gateway/PTARGS_0_601270_1522_209_0_43/http%3B/sjapp20.mis.cypress.com%3B7001/publishedcontent/publish/design_resources/datasheets/contents/cy39030v_5.pdf
footprint NT208_N (Shrink QFP, 208-Leads, Body 28x28mm, Pitch 0.5mm, IPC Medium Density)
footprint NT208_L (Shrink QFP, 208-Leads, Body 28x28mm, Pitch 0.5mm, IPC High Density)
footprint NT208_M (Shrink QFP, 208-Leads, Body 28x28mm, Pitch 0.5mm, IPC Low Density)
3D model CY39200V208-NT208 (208-Pin Plastic Shrink Quad Flat Pack 0.5 mm Pitch)
part A pins: 5 IO0 (io) "IO for Bank 0", 6 IO0 (io) "IO for Bank 0", 7 IO0 (io) "IO for Bank 0", 9 IO0 (io) "IO for Bank 0", 10 IO0 (io) "IO for Bank 0", 12 IO0 (io) "IO for Bank 0", 13 IO0 (io) "IO for Bank 0", 14 IO0 (io) "IO for Bank 0", 15 IO0 (io) "IO for Bank 0", 17 IO0 (io) "IO for Bank 0", 18 IO0 (io) "IO for Bank 0", 19 IO0 (io) "IO for Bank 0", 21 IO0 (io) "IO for Bank 0", 22 IO0 (io) "IO for Bank 0", 31 IO1 (io) "IO for Bank 1", 32 IO1 (io) "IO for Bank 1", 33 IO1 (io) "IO for Bank 1", 34 IO1 (io) "IO for Bank 1", 37 IO1 (io) "IO for Bank 1", 38 IO1 (io) "IO for Bank 1", 39 IO1 (io) "IO for Bank 1", 41 IO1 (io) "IO for Bank 1", 42 IO1 (io) "IO for Bank 1", 43 IO1 (io) "IO for Bank 1", 44 IO1 (io) "IO for Bank 1", 48 IO1 (io) "IO for Bank 1", 50 IO1 (io) "IO for Bank 1", 51 IO1 (io) "IO for Bank 1", 61 IO2 (io) "IO for Bank 2", 62 IO2 (io) "IO for Bank 2", 63 IO2 (io) "IO for Bank 2", 65 IO2 (io) "IO for Bank 2", 68 IO2 (io) "IO for Bank 2", 69 IO2 (io) "IO for Bank 2", 70 IO2 (io) "IO for Bank 2", 71 IO2 (io) "IO for Bank 2", 79 IO2 (io) "IO for Bank 2", 81 IO2 (io) "IO for Bank 2", 82 IO2 (io) "IO for Bank 2", 83 IO2 (io) "IO for Bank 2", 86 IO3 (io) "IO for Bank 3", 87 IO3 (io) "IO for Bank 3", 91 IO3 (io) "IO for Bank 3", 92 IO3 (io) "IO for Bank 3", 93 IO3 (io) "IO for Bank 3", 94 IO3 (io) "IO for Bank 3", 95 IO3 (io) "IO for Bank 3", 97 IO3 (io) "IO for Bank 3", 99 IO3 (io) "IO for Bank 3", 101 IO3 (io) "IO for Bank 3", 102 IO3 (io) "IO for Bank 3", 103 IO3 (io) "IO for Bank 3", 105 IO4 (io) "IO for Bank 4", 106 IO4 (io) "IO for Bank 4", 107 IO4 (io) "IO for Bank 4", 109 IO4 (io) "IO for Bank 4", 110 IO4 (io) "IO for Bank 4", 113 IO4 (io) "IO for Bank 4", 115 IO4 (io) "IO for Bank 4", 117 IO4 (io) "IO for Bank 4", 118 IO4 (io) "IO for Bank 4", 119 IO4 (io) "IO for Bank 4", 120 IO4 (io) "IO for Bank 4", 121 IO4 (io) "IO for Bank 4", 123 IO4 (io) "IO for Bank 4", 126 IO4 (io) "IO for Bank 4", 133 IO5 (io) "IO for Bank 5", 134 IO5 (io) "IO for Bank 5", 136 IO5 (io) "IO for Bank 5", 137 IO5 (io) "IO for Bank 5", 139 IO5 (io) "IO for Bank 5", 140 IO5 (io) "IO for Bank 5", 141 IO5 (io) "IO for Bank 5", 143 IO5 (io) "IO for Bank 5", 144 IO5 (io) "IO for Bank 5", 145 IO5 (io) "IO for Bank 5", 146 IO5 (io) "IO for Bank 5", 147 IO5 (io) "IO for Bank 5", 150 IO5 (io) "IO for Bank 5", 151 IO5 (io) "IO for Bank 5", 164 IO6 (io) "IO for Bank 6", 165 IO6 (io) "IO for Bank 6", 166 IO6 (io) "IO for Bank 6", 168 IO6 (io) "IO for Bank 6", 170 IO6 (io) "IO for Bank 6", 171 IO6 (io) "IO for Bank 6", 172 IO6 (io) "IO for Bank 6", 174 IO6 (io) "IO for Bank 6", 175 IO6 (io) "IO for Bank 6", 176 IO6 (io) "IO for Bank 6", 184 IO6 (io) "IO for Bank 6", 185 IO6/Lock (io) "IO in Bank 6 or PLL lock output signal", 188 IO7 (io) "IO for Bank 7", 189 IO7 (io) "IO for Bank 7", 192 IO7 (io) "IO for Bank 7", 193 IO7 (io) "IO for Bank 7", 194 IO7 (io) "IO for Bank 7", 195 IO7 (io) "IO for Bank 7", 197 IO7 (io) "IO for Bank 7", 198 IO7 (io) "IO for Bank 7", 200 IO7 (io) "IO for Bank 7", 202 IO7 (io) "IO for Bank 7", 203 IO7 (io) "IO for Bank 7", 204 IO7 (io) "IO for Bank 7"
part B pins: 1 GCTL0 (in) "Global Control signal 0", 2 GND (power) "Ground", 3 GCLK0 (in) "Global Clock signal 0", 4 GND (power) "Ground", 8 IO/VREF0 (io) "IO or Reference Voltage for Bank 0", 11 VCCIO0 (power) "VCC for I/O bank 0", 16 IO/VREF0 (io) "IO or Reference Voltage for Bank 0", 20 VCCIO0 (power) "VCC for I/O bank 0", 23 VCC (power) "Operating Voltage", 24 GND (power) "Ground", 25 VCC (power) "Operating Voltage", 26 GND (power) "Ground", 27 IO/VREF0 (io) "IO or Reference Voltage for Bank 0", 28 VCCIO0 (power) "VCC for I/O bank 0", 29 VCCIO1 (power) "VCC for I/O bank 1", 30 IO/VREF1 (io) "IO or Reference Voltage for Bank 1", 35 VCCIO1 (power) "VCC for I/O bank 1", 36 GND (power) "Ground", 40 IO/VREF1 (io) "IO or Reference Voltage for Bank 1", 45 VCCPRG (power) "VCC for programming Self-Boot solution embedded boot PROM", 46 VCCIO1 (power) "VCC for I/O bank 1", 47 GND (power) "Ground", 49 IO/VREF1 (io) "IO or Reference Voltage for Bank 1", 52 VCCCNFG (power) "VCC for Configuration port", 53 Data (in) "Pin to receive configuration data from the external boot PROM", 54 Config_Done (out) "Flag indicating that configuration is complete", 55 Reset (out) "Reset signal to interface with the external boot PROM", 56 Reconfig (in) "Pin to start configuration of Delta39K", 57 ~{CCE} (out) "Chip select for the external boot PROM (active low)", 58 CCLK (out) "Configuration Clock for serial interface with the external boot PROM", 59 VCCCNFG (power) "VCC for Configuration port", 60 MSEL (in) "Mode Select Pin", 64 IO/VREF2 (io) "IO or Reference Voltage for Bank 2", 66 VCCIO2 (power) "VCC for I/O bank 2", 67 GND (power) "Ground", 72 IO/VREF2 (io) "IO or Reference Voltage for Bank 2", 73 GND (power) "Ground", 74 VCCIO2 (power) "VCC for I/O bank 2", 75 VCC (power) "Operating Voltage", 76 GND (power) "Ground", 77 VCC (power) "Operating Voltage", 78 GND (power) "Ground", 80 IO/VREF2 (io) "IO or Reference Voltage for Bank 2", 84 VCCIO2 (power) "VCC for I/O bank 2", 85 VCCIO3 (power) "VCC for I/O bank 3", 88 IO/VREF3 (io) "IO or Reference Voltage for Bank 3", 89 VCCIO3 (power) "VCC for I/O bank 3", 90 GND (power) "Ground", 96 IO/VREF3 (io) "IO or Reference Voltage for Bank 3", 98 VCCIO3 (power) "VCC for I/O bank 3", 100 GND (power) "Ground", 104 IO/VREF3 (io) "IO or Reference Voltage for Bank 3", 108 IO/VREF4 (io) "IO or Reference Voltage for Bank 4", 111 VCCIO4 (power) "VCC for I/O bank 4", 112 GND (power) "Ground", 114 VCCPRG (power) "VCC for programming Self-Boot solution embedded boot PROM", 116 IO/VREF4 (io) "IO or Reference Voltage for Bank 4", 122 IO/VREF4 (io) "IO or Reference Voltage for Bank 4", 124 VCCIO4 (power) "VCC for I/O bank 4", 125 GND (power) "Ground", 127 VCC (power) "Operating Voltage", 128 GND (power) "Ground", 129 VCC (power) "Operating Voltage", 130 GND (power) "Ground", 131 VCCIO4 (power) "VCC for I/O bank 4", 132 VCCIO5 (power) "VCC for I/O bank 5", 135 IO/VREF5 (io) "IO or Reference Voltage for Bank 5", 138 VCCIO5 (power) "VCC for I/O bank 5", 142 IO/VREF5 (io) "IO or Reference Voltage for Bank 5", 148 VCCIO5 (power) "VCC for I/O bank 5", 149 IO/VREF5 (io) "IO or Reference Voltage for Bank 5", 152 GND (power) "Ground", 153 GCLK1 (in) "Global Clock signal 1", 154 GND (power) "Ground", 155 GCTL1 (in) "Global Control signal 1", 156 TDO (out) "JTAG Test Data Out", 157 TCLK (in) "JTAG Test Clock", 158 TDI (in) "JTAG Test Data In", 159 VCCJTAG (power) "VCC for JTAG pins", 160 GCLK2 (in) "Global Clock signal 2", 161 GND (power) "Ground", 162 TMS (in) "JTAG Test Mode Select", 163 GCTL2 (in) "Global Control signal 2", 167 IO/VREF6 (io) "IO or Reference Voltage for Bank 6", 169 VCCIO6 (power) "VCC for I/O bank 6", 173 IO/VREF6 (io) "IO or Reference Voltage for Bank 6", 177 GND (power) "Ground", 178 VCCIO6 (power) "VCC for I/O bank 6", 179 VCCPLL (power) "VCC for PLL", 180 GND (power) "Ground", 181 VCC (power) "Operating Voltage", 182 GND (power) "Ground", 183 IO/VREF6 (io) "IO or Reference Voltage for Bank 6", 186 VCCIO6 (power) "VCC for I/O bank 6", 187 VCCIO7 (power) "VCC for I/O bank 7", 190 IO/VREF7 (io) "IO or Reference Voltage for Bank 7", 191 VCCIO7 (power) "VCC for I/O bank 7", 196 IO/VREF7 (io) "IO or Reference Voltage for Bank 7", 199 VCCIO7 (power) "VCC for I/O bank 7", 201 IO/VREF7 (io) "IO or Reference Voltage for Bank 7", 205 GND (power) "Ground", 206 GCLK3 (in) "Global Clock signal 3", 207 GND (power) "Ground", 208 GCTL3 (in) "Global Control signal 3"

## CY39200V208-125NTXC
designator U?
Delta39K ISR CPLD, 3.3V/2.5V, 200K Gates, 125 MHz, 208-Lead EQFP, Commercial Grade, Pb-Free; Published: 6-Oct-2005; LatestRevisionDate: 13-Apr-2006; LatestRevisionNote: IPC-7351 Footprint Added.; DatasheetVersion: revI, Mar-2005; PackageVersion: Mar-2002; PackageReference: NT208; Publisher: Altium Limited; PackageDescription: 208-Pin Plastic Shrink Quad Flat Pack 0.5 mm Pitch; ComponentLink1Description: Manufacturer Link; ComponentLink1URL: http://www.cypress.com/; ComponentLink2Description: Datasheet; ComponentLink2URL: http://www.cypress.com/portal/server.pt/gateway/PTARGS_0_601270_1522_209_0_43/http%3B/sjapp20.mis.cypress.com%3B7001/publishedcontent/publish/design_resources/datasheets/contents/cy39030v_5.pdf
footprint NT208_N (Shrink QFP, 208-Leads, Body 28x28mm, Pitch 0.5mm, IPC Medium Density)
footprint NT208_L (Shrink QFP, 208-Leads, Body 28x28mm, Pitch 0.5mm, IPC High Density)
footprint NT208_M (Shrink QFP, 208-Leads, Body 28x28mm, Pitch 0.5mm, IPC Low Density)
3D model CY39200V208-NT208 (208-Pin Plastic Shrink Quad Flat Pack 0.5 mm Pitch)
part A pins: 5 IO0 (io) "IO for Bank 0", 6 IO0 (io) "IO for Bank 0", 7 IO0 (io) "IO for Bank 0", 9 IO0 (io) "IO for Bank 0", 10 IO0 (io) "IO for Bank 0", 12 IO0 (io) "IO for Bank 0", 13 IO0 (io) "IO for Bank 0", 14 IO0 (io) "IO for Bank 0", 15 IO0 (io) "IO for Bank 0", 17 IO0 (io) "IO for Bank 0", 18 IO0 (io) "IO for Bank 0", 19 IO0 (io) "IO for Bank 0", 21 IO0 (io) "IO for Bank 0", 22 IO0 (io) "IO for Bank 0", 31 IO1 (io) "IO for Bank 1", 32 IO1 (io) "IO for Bank 1", 33 IO1 (io) "IO for Bank 1", 34 IO1 (io) "IO for Bank 1", 37 IO1 (io) "IO for Bank 1", 38 IO1 (io) "IO for Bank 1", 39 IO1 (io) "IO for Bank 1", 41 IO1 (io) "IO for Bank 1", 42 IO1 (io) "IO for Bank 1", 43 IO1 (io) "IO for Bank 1", 44 IO1 (io) "IO for Bank 1", 48 IO1 (io) "IO for Bank 1", 50 IO1 (io) "IO for Bank 1", 51 IO1 (io) "IO for Bank 1", 61 IO2 (io) "IO for Bank 2", 62 IO2 (io) "IO for Bank 2", 63 IO2 (io) "IO for Bank 2", 65 IO2 (io) "IO for Bank 2", 68 IO2 (io) "IO for Bank 2", 69 IO2 (io) "IO for Bank 2", 70 IO2 (io) "IO for Bank 2", 71 IO2 (io) "IO for Bank 2", 79 IO2 (io) "IO for Bank 2", 81 IO2 (io) "IO for Bank 2", 82 IO2 (io) "IO for Bank 2", 83 IO2 (io) "IO for Bank 2", 86 IO3 (io) "IO for Bank 3", 87 IO3 (io) "IO for Bank 3", 91 IO3 (io) "IO for Bank 3", 92 IO3 (io) "IO for Bank 3", 93 IO3 (io) "IO for Bank 3", 94 IO3 (io) "IO for Bank 3", 95 IO3 (io) "IO for Bank 3", 97 IO3 (io) "IO for Bank 3", 99 IO3 (io) "IO for Bank 3", 101 IO3 (io) "IO for Bank 3", 102 IO3 (io) "IO for Bank 3", 103 IO3 (io) "IO for Bank 3", 105 IO4 (io) "IO for Bank 4", 106 IO4 (io) "IO for Bank 4", 107 IO4 (io) "IO for Bank 4", 109 IO4 (io) "IO for Bank 4", 110 IO4 (io) "IO for Bank 4", 113 IO4 (io) "IO for Bank 4", 115 IO4 (io) "IO for Bank 4", 117 IO4 (io) "IO for Bank 4", 118 IO4 (io) "IO for Bank 4", 119 IO4 (io) "IO for Bank 4", 120 IO4 (io) "IO for Bank 4", 121 IO4 (io) "IO for Bank 4", 123 IO4 (io) "IO for Bank 4", 126 IO4 (io) "IO for Bank 4", 133 IO5 (io) "IO for Bank 5", 134 IO5 (io) "IO for Bank 5", 136 IO5 (io) "IO for Bank 5", 137 IO5 (io) "IO for Bank 5", 139 IO5 (io) "IO for Bank 5", 140 IO5 (io) "IO for Bank 5", 141 IO5 (io) "IO for Bank 5", 143 IO5 (io) "IO for Bank 5", 144 IO5 (io) "IO for Bank 5", 145 IO5 (io) "IO for Bank 5", 146 IO5 (io) "IO for Bank 5", 147 IO5 (io) "IO for Bank 5", 150 IO5 (io) "IO for Bank 5", 151 IO5 (io) "IO for Bank 5", 164 IO6 (io) "IO for Bank 6", 165 IO6 (io) "IO for Bank 6", 166 IO6 (io) "IO for Bank 6", 168 IO6 (io) "IO for Bank 6", 170 IO6 (io) "IO for Bank 6", 171 IO6 (io) "IO for Bank 6", 172 IO6 (io) "IO for Bank 6", 174 IO6 (io) "IO for Bank 6", 175 IO6 (io) "IO for Bank 6", 176 IO6 (io) "IO for Bank 6", 184 IO6 (io) "IO for Bank 6", 185 IO6/Lock (io) "IO in Bank 6 or PLL lock output signal", 188 IO7 (io) "IO for Bank 7", 189 IO7 (io) "IO for Bank 7", 192 IO7 (io) "IO for Bank 7", 193 IO7 (io) "IO for Bank 7", 194 IO7 (io) "IO for Bank 7", 195 IO7 (io) "IO for Bank 7", 197 IO7 (io) "IO for Bank 7", 198 IO7 (io) "IO for Bank 7", 200 IO7 (io) "IO for Bank 7", 202 IO7 (io) "IO for Bank 7", 203 IO7 (io) "IO for Bank 7", 204 IO7 (io) "IO for Bank 7"
part B pins: 1 GCTL0 (in) "Global Control signal 0", 2 GND (power) "Ground", 3 GCLK0 (in) "Global Clock signal 0", 4 GND (power) "Ground", 8 IO/VREF0 (io) "IO or Reference Voltage for Bank 0", 11 VCCIO0 (power) "VCC for I/O bank 0", 16 IO/VREF0 (io) "IO or Reference Voltage for Bank 0", 20 VCCIO0 (power) "VCC for I/O bank 0", 23 VCC (power) "Operating Voltage", 24 GND (power) "Ground", 25 VCC (power) "Operating Voltage", 26 GND (power) "Ground", 27 IO/VREF0 (io) "IO or Reference Voltage for Bank 0", 28 VCCIO0 (power) "VCC for I/O bank 0", 29 VCCIO1 (power) "VCC for I/O bank 1", 30 IO/VREF1 (io) "IO or Reference Voltage for Bank 1", 35 VCCIO1 (power) "VCC for I/O bank 1", 36 GND (power) "Ground", 40 IO/VREF1 (io) "IO or Reference Voltage for Bank 1", 45 VCCPRG (power) "VCC for programming Self-Boot solution embedded boot PROM", 46 VCCIO1 (power) "VCC for I/O bank 1", 47 GND (power) "Ground", 49 IO/VREF1 (io) "IO or Reference Voltage for Bank 1", 52 VCCCNFG (power) "VCC for Configuration port", 53 Data (in) "Pin to receive configuration data from the external boot PROM", 54 Config_Done (out) "Flag indicating that configuration is complete", 55 Reset (out) "Reset signal to interface with the external boot PROM", 56 Reconfig (in) "Pin to start configuration of Delta39K", 57 ~{CCE} (out) "Chip select for the external boot PROM (active low)", 58 CCLK (out) "Configuration Clock for serial interface with the external boot PROM", 59 VCCCNFG (power) "VCC for Configuration port", 60 MSEL (in) "Mode Select Pin", 64 IO/VREF2 (io) "IO or Reference Voltage for Bank 2", 66 VCCIO2 (power) "VCC for I/O bank 2", 67 GND (power) "Ground", 72 IO/VREF2 (io) "IO or Reference Voltage for Bank 2", 73 GND (power) "Ground", 74 VCCIO2 (power) "VCC for I/O bank 2", 75 VCC (power) "Operating Voltage", 76 GND (power) "Ground", 77 VCC (power) "Operating Voltage", 78 GND (power) "Ground", 80 IO/VREF2 (io) "IO or Reference Voltage for Bank 2", 84 VCCIO2 (power) "VCC for I/O bank 2", 85 VCCIO3 (power) "VCC for I/O bank 3", 88 IO/VREF3 (io) "IO or Reference Voltage for Bank 3", 89 VCCIO3 (power) "VCC for I/O bank 3", 90 GND (power) "Ground", 96 IO/VREF3 (io) "IO or Reference Voltage for Bank 3", 98 VCCIO3 (power) "VCC for I/O bank 3", 100 GND (power) "Ground", 104 IO/VREF3 (io) "IO or Reference Voltage for Bank 3", 108 IO/VREF4 (io) "IO or Reference Voltage for Bank 4", 111 VCCIO4 (power) "VCC for I/O bank 4", 112 GND (power) "Ground", 114 VCCPRG (power) "VCC for programming Self-Boot solution embedded boot PROM", 116 IO/VREF4 (io) "IO or Reference Voltage for Bank 4", 122 IO/VREF4 (io) "IO or Reference Voltage for Bank 4", 124 VCCIO4 (power) "VCC for I/O bank 4", 125 GND (power) "Ground", 127 VCC (power) "Operating Voltage", 128 GND (power) "Ground", 129 VCC (power) "Operating Voltage", 130 GND (power) "Ground", 131 VCCIO4 (power) "VCC for I/O bank 4", 132 VCCIO5 (power) "VCC for I/O bank 5", 135 IO/VREF5 (io) "IO or Reference Voltage for Bank 5", 138 VCCIO5 (power) "VCC for I/O bank 5", 142 IO/VREF5 (io) "IO or Reference Voltage for Bank 5", 148 VCCIO5 (power) "VCC for I/O bank 5", 149 IO/VREF5 (io) "IO or Reference Voltage for Bank 5", 152 GND (power) "Ground", 153 GCLK1 (in) "Global Clock signal 1", 154 GND (power) "Ground", 155 GCTL1 (in) "Global Control signal 1", 156 TDO (out) "JTAG Test Data Out", 157 TCLK (in) "JTAG Test Clock", 158 TDI (in) "JTAG Test Data In", 159 VCCJTAG (power) "VCC for JTAG pins", 160 GCLK2 (in) "Global Clock signal 2", 161 GND (power) "Ground", 162 TMS (in) "JTAG Test Mode Select", 163 GCTL2 (in) "Global Control signal 2", 167 IO/VREF6 (io) "IO or Reference Voltage for Bank 6", 169 VCCIO6 (power) "VCC for I/O bank 6", 173 IO/VREF6 (io) "IO or Reference Voltage for Bank 6", 177 GND (power) "Ground", 178 VCCIO6 (power) "VCC for I/O bank 6", 179 VCCPLL (power) "VCC for PLL", 180 GND (power) "Ground", 181 VCC (power) "Operating Voltage", 182 GND (power) "Ground", 183 IO/VREF6 (io) "IO or Reference Voltage for Bank 6", 186 VCCIO6 (power) "VCC for I/O bank 6", 187 VCCIO7 (power) "VCC for I/O bank 7", 190 IO/VREF7 (io) "IO or Reference Voltage for Bank 7", 191 VCCIO7 (power) "VCC for I/O bank 7", 196 IO/VREF7 (io) "IO or Reference Voltage for Bank 7", 199 VCCIO7 (power) "VCC for I/O bank 7", 201 IO/VREF7 (io) "IO or Reference Voltage for Bank 7", 205 GND (power) "Ground", 206 GCLK3 (in) "Global Clock signal 3", 207 GND (power) "Ground", 208 GCTL3 (in) "Global Control signal 3"

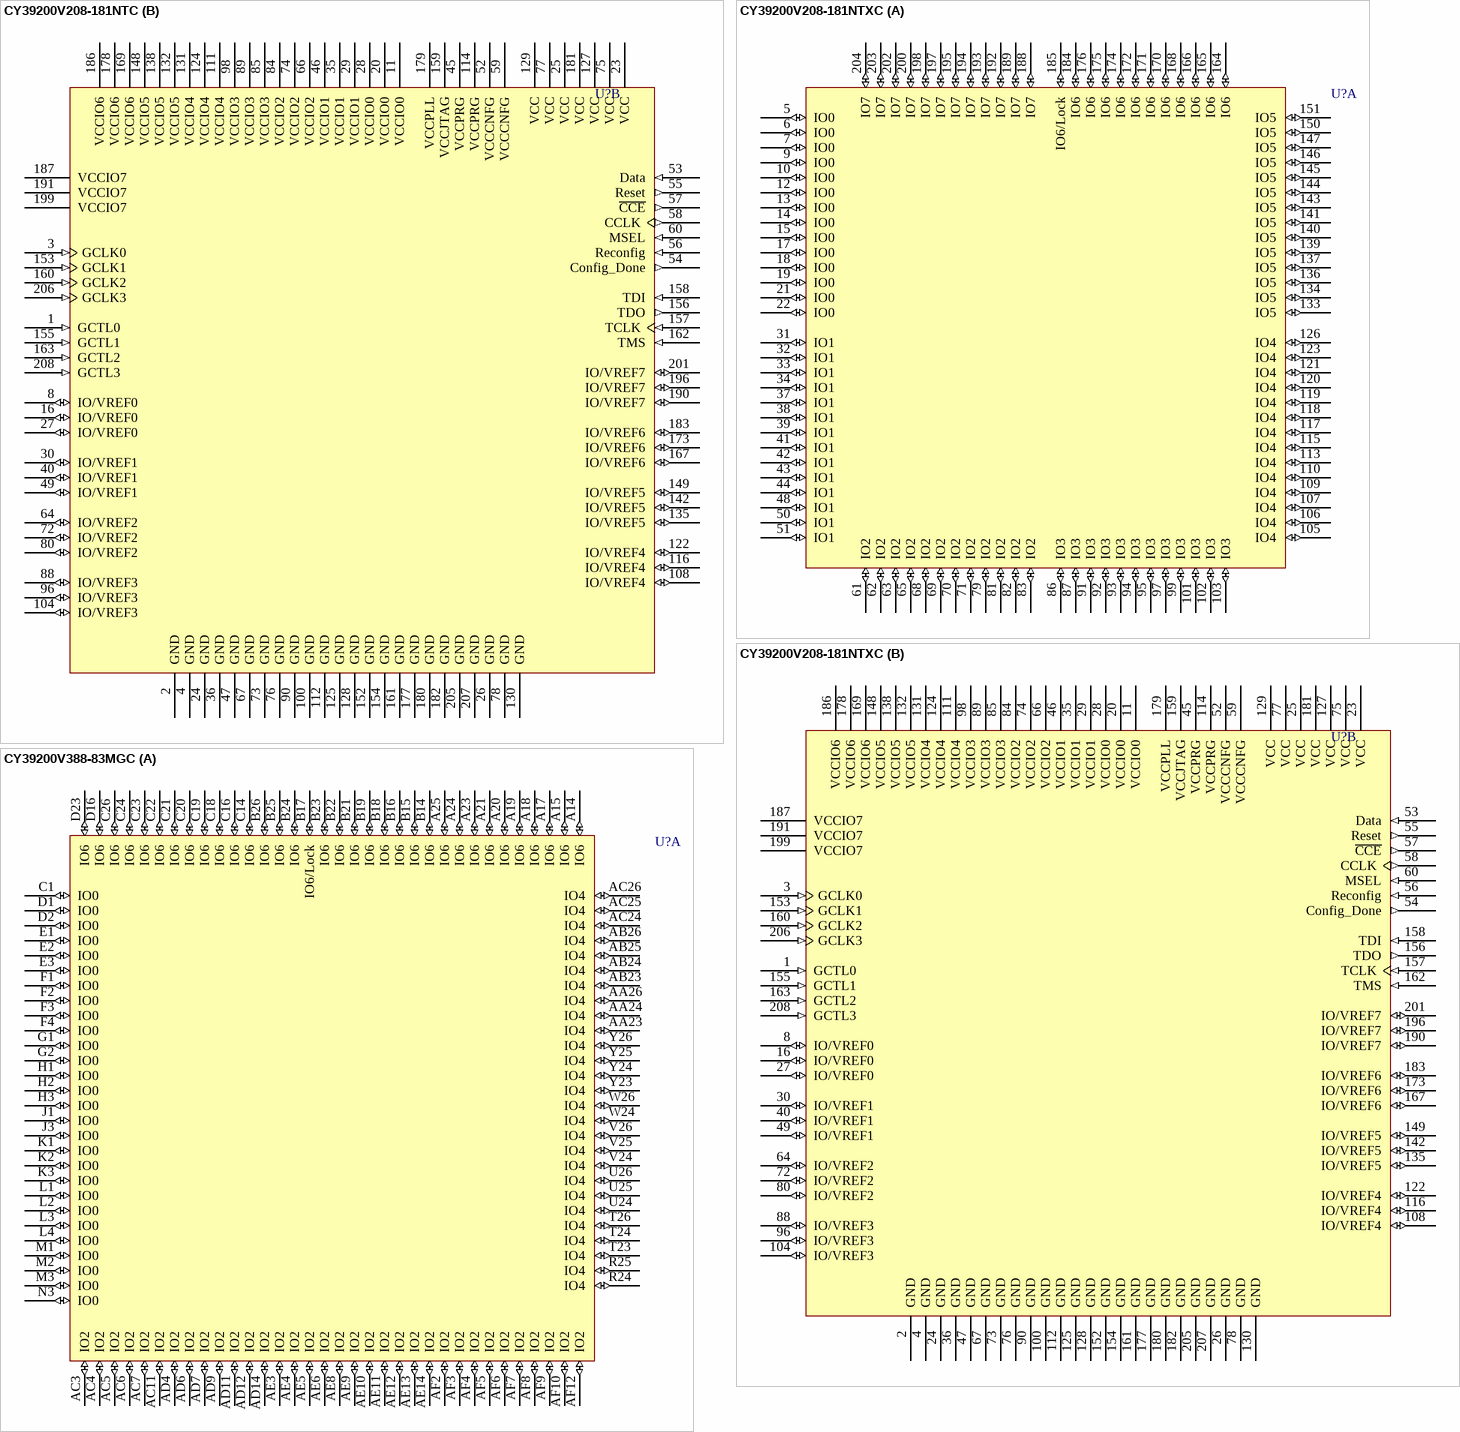
[diagram p56: symbols CY39200V208-181NTC to CY39200V388-83MGC]